# EAGLE library part RJ45 (library pancam)
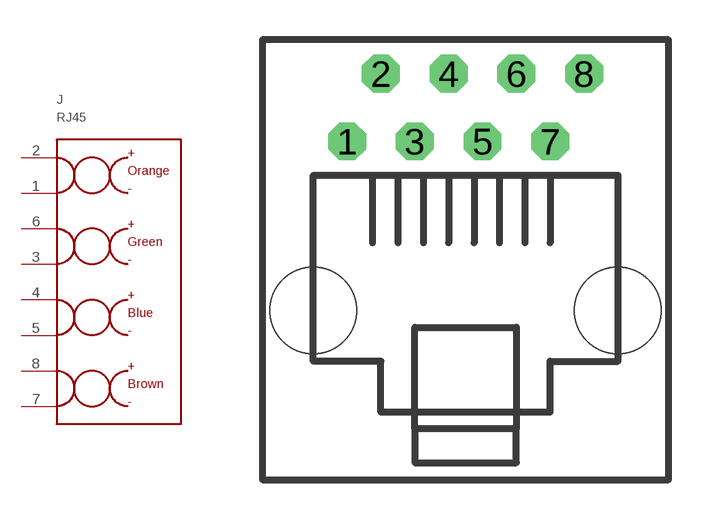
[diagram p0: symbol with the pads of RJ45_KEYSTONE_949; footprint RJ45_KEYSTONE_949]

Designator prefix J

## RJ45  [RJ45_KEYSTONE_949]
1  1
2  2
3  3
4  4
5  5
6  6
7  7
8  8

## Footprint RJ45_KEYSTONE_949 (pad centres in mm)
drill 0.9 pad 1.422 octagon: 1 -4.445,0; 2 -3.175,2.54; 3 -1.905,0; 4 -0.635,2.54; 5 0.635,0; 6 1.905,2.54; 7 3.175,0; 8 4.445,2.54
hole 3.251 at -5.715,-6.35
hole 3.251 at 5.715,-6.35